# EAGLE library part 61300625721 (library Wuerth_Elektronik_eiCan_Pin_&_Socked_Headers_v1.3)
WR-PHD 2.54mm Dual Socket Header Bottom Entry, 6 Pins
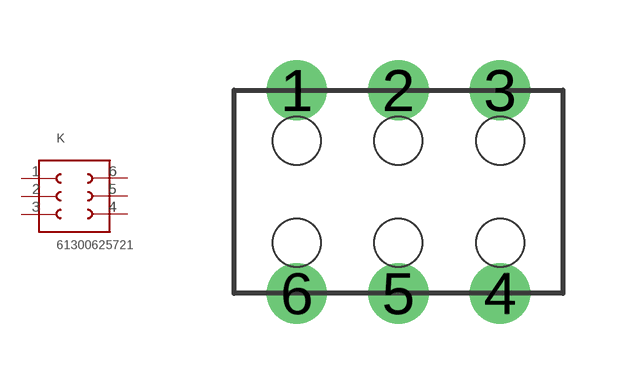
[diagram p191: symbol with the pads of 61300625721; footprint 61300625721]

Designator prefix K

## 61300625721  [61300625721]
1  1  pas
2  2  pas
3  3  pas
4  4  pas
5  5  pas
6  6  pas

## Footprint 61300625721 (pad centres in mm)
WR-PHD 2.54mm Dual Socket Header Bottom Entry, 6 Pins
drill 1 round: 1 -2.54,2.54; 2 0,2.54; 3 2.54,2.54; 4 2.54,-2.54; 5 0,-2.54; 6 -2.54,-2.54
hole 1.2 at -2.54,1.27
hole 1.2 at 0,1.27
hole 1.2 at 2.54,1.27
hole 1.2 at -2.54,-1.27
hole 1.2 at 0,-1.27
hole 1.2 at 2.54,-1.27